# Altium schematic symbol library WE-DPC HV.SchLib: 13 symbols
Pins are listed as number, name and electrical type; pins without a type are passive.

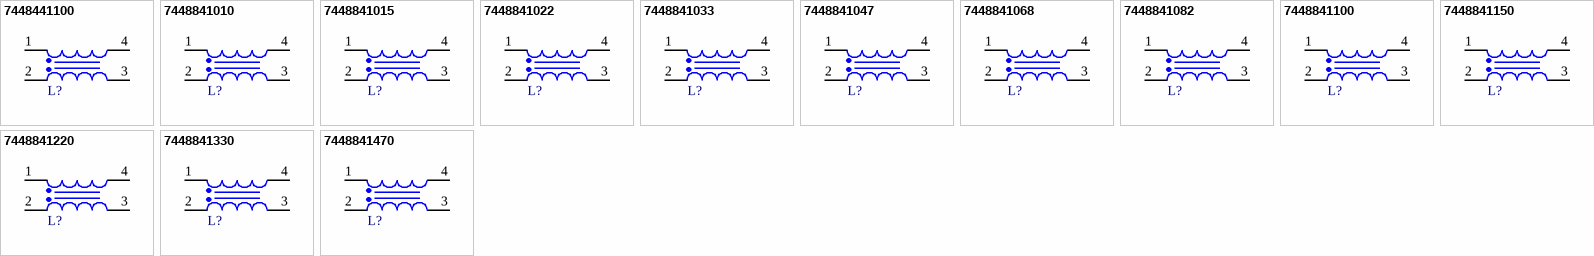
[diagram p0: symbols 7448441100 to 7448841470]

## 7448441100
designator L?, comment 10µH, 1.2A  (value not drawn)
WE-DPC HV SMT Dual Powerchoke, size 5030, 10µH, 1.2A, 300mΩ; Manufacturer Part Number: 7448441100; Manufacturer: Wurth Elektronik; Case/Size Code: 5030; DC Resistance 1: 210mΩ; Rated Voltage: 250V; Saturation Current: 1.5A; Self Resonant Frequency: 35MHz; Turns Ratio: 1:1; Category: Coupled Power Inductors; Match Code: WE-DPC HV; ComponentLink1Description: Website Link; ComponentLink1URL: https://www.we-online.com/redexpert/article/7448441100?ad; ComponentLink2Description: Datasheet Link; ComponentLink2URL: https://www.we-online.com/redexpert/spec/7448441100?ad; Mount: Surface Mount; Operating Temperature Max: 125°C; Operating Temperature Min: -40°C; Packaging: Tape and Reel; Length: 5.2mm; Width: 5.2mm; Height: 3.1mm; DC Resistance 2: 210mΩ; DC Resistance Max 1: 300mΩ; DC Resistance Max 2: 300mΩ; Inductance 1: 10µH; Inductance 2: 10µH; Rated Current 1: 1.2A; Rated Current 2: 1.2A
footprint WE-DPC HV_5030
simulation model 5030_7448441100_10u
pins: 1, 2, 3, 4

## 7448841010
designator L?, comment 1µH, 2.9A  (value not drawn)
WE-DPC HV SMT Dual Powerchoke, size 5030, 1µH, 2.9A, 45mΩ; Manufacturer Part Number: 7448841010; Manufacturer: Wurth Elektronik; Case/Size Code: 5030; DC Resistance 1: 32mΩ; Rated Voltage: 250V; Saturation Current: 5A; Self Resonant Frequency: 190MHz; Turns Ratio: 1:1; Category: Coupled Power Inductors; Match Code: WE-DPC HV; ComponentLink1Description: Website Link; ComponentLink1URL: https://www.we-online.com/redexpert/article/7448841010?ad; ComponentLink2Description: Datasheet Link; ComponentLink2URL: https://www.we-online.com/redexpert/spec/7448841010?ad; Mount: Surface Mount; Operating Temperature Max: 125°C; Operating Temperature Min: -40°C; Packaging: Tape and Reel; Length: 5.2mm; Width: 5.2mm; Height: 3.1mm; DC Resistance 2: 32mΩ; DC Resistance Max 1: 45mΩ; DC Resistance Max 2: 45mΩ; Inductance 1: 1µH; Inductance 2: 1µH; Rated Current 1: 2.9A; Rated Current 2: 2.9A
footprint WE-DPC HV_5030
simulation model 5030_7448841010_1u
pins: 1, 2, 3, 4

## 7448841015
designator L?, comment 1.5µH, 2.7A  (value not drawn)
WE-DPC HV SMT Dual Powerchoke, size 5030, 1.5µH, 2.7A, 68mΩ; Manufacturer Part Number: 7448841015; Manufacturer: Wurth Elektronik; Case/Size Code: 5030; DC Resistance 1: 48mΩ; Rated Voltage: 250V; Saturation Current: 3.7A; Self Resonant Frequency: 110MHz; Turns Ratio: 1:1; Category: Coupled Power Inductors; Match Code: WE-DPC HV; ComponentLink1Description: Website Link; ComponentLink1URL: https://www.we-online.com/redexpert/article/7448841015?ad; ComponentLink2Description: Datasheet Link; ComponentLink2URL: https://www.we-online.com/redexpert/spec/7448841015?ad; Mount: Surface Mount; Operating Temperature Max: 125°C; Operating Temperature Min: -40°C; Packaging: Tape and Reel; Length: 5.2mm; Width: 5.2mm; Height: 3.1mm; DC Resistance 2: 48mΩ; DC Resistance Max 1: 68mΩ; DC Resistance Max 2: 68mΩ; Inductance 1: 1.5µH; Inductance 2: 1.5µH; Rated Current 1: 2.7A; Rated Current 2: 2.7A
footprint WE-DPC HV_5030
simulation model 5030_7448841015_1.5u
pins: 1, 2, 3, 4

## 7448841022
designator L?, comment 2.2µH, 2.5A  (value not drawn)
WE-DPC HV SMT Dual Powerchoke, size 5030, 2.2µH, 2.5A, 72mΩ; Manufacturer Part Number: 7448841022; Manufacturer: Wurth Elektronik; Case/Size Code: 5030; DC Resistance 1: 50mΩ; Rated Voltage: 250V; Saturation Current: 3.2A; Self Resonant Frequency: 95MHz; Turns Ratio: 1:1; Category: Coupled Power Inductors; Match Code: WE-DPC HV; ComponentLink1Description: Website Link; ComponentLink1URL: https://www.we-online.com/redexpert/article/7448841022?ad; ComponentLink2Description: Datasheet Link; ComponentLink2URL: https://www.we-online.com/redexpert/spec/7448841022?ad; Mount: Surface Mount; Operating Temperature Max: 125°C; Operating Temperature Min: -40°C; Packaging: Tape and Reel; Length: 5.2mm; Width: 5.2mm; Height: 3.1mm; DC Resistance 2: 50mΩ; DC Resistance Max 1: 72mΩ; DC Resistance Max 2: 72mΩ; Inductance 1: 2.2µH; Inductance 2: 2.2µH; Rated Current 1: 2.5A; Rated Current 2: 2.5A
footprint WE-DPC HV_5030
simulation model 5030_7448841022_2.2u
pins: 1, 2, 3, 4

## 7448841033
designator L?, comment 3.3µH, 1.9A  (value not drawn)
WE-DPC HV SMT Dual Powerchoke, size 5030, 3.3µH, 1.9A, 120mΩ; Manufacturer Part Number: 7448841033; Manufacturer: Wurth Elektronik; Case/Size Code: 5030; DC Resistance 1: 84mΩ; Rated Voltage: 250V; Saturation Current: 2.6A; Self Resonant Frequency: 50MHz; Turns Ratio: 1:1; Category: Coupled Power Inductors; Match Code: WE-DPC HV; ComponentLink1Description: Website Link; ComponentLink1URL: https://www.we-online.com/redexpert/article/7448841033?ad; ComponentLink2Description: Datasheet Link; ComponentLink2URL: https://www.we-online.com/redexpert/spec/7448841033?ad; Mount: Surface Mount; Operating Temperature Max: 125°C; Operating Temperature Min: -40°C; Packaging: Tape and Reel; Length: 5.2mm; Width: 5.2mm; Height: 3.1mm; DC Resistance 2: 84mΩ; DC Resistance Max 1: 120mΩ; DC Resistance Max 2: 120mΩ; Inductance 1: 3.3µH; Inductance 2: 3.3µH; Rated Current 1: 1.9A; Rated Current 2: 1.9A
footprint WE-DPC HV_5030
simulation model 5030_7448841033_3.3u
pins: 1, 2, 3, 4

## 7448841047
designator L?, comment 4.7µH, 1.6A  (value not drawn)
WE-DPC HV SMT Dual Powerchoke, size 5030, 4.7µH, 1.6A, 145mΩ; Manufacturer Part Number: 7448841047; Manufacturer: Wurth Elektronik; Case/Size Code: 5030; DC Resistance 1: 102mΩ; Rated Voltage: 250V; Saturation Current: 1.9A; Self Resonant Frequency: 45MHz; Turns Ratio: 1:1; Category: Coupled Power Inductors; Match Code: WE-DPC HV; ComponentLink1Description: Website Link; ComponentLink1URL: https://www.we-online.com/redexpert/article/7448841047?ad; ComponentLink2Description: Datasheet Link; ComponentLink2URL: https://www.we-online.com/redexpert/spec/7448841047?ad; Mount: Surface Mount; Operating Temperature Max: 125°C; Operating Temperature Min: -40°C; Packaging: Tape and Reel; Length: 5.2mm; Width: 5.2mm; Height: 3.1mm; DC Resistance 2: 102mΩ; DC Resistance Max 1: 145mΩ; DC Resistance Max 2: 145mΩ; Inductance 1: 4.7µH; Inductance 2: 4.7µH; Rated Current 1: 1.6A; Rated Current 2: 1.6A
footprint WE-DPC HV_5030
simulation model 5030_7448841047_4.7u
pins: 1, 2, 3, 4

## 7448841068
designator L?, comment 6.8µH, 1.4A  (value not drawn)
WE-DPC HV SMT Dual Powerchoke, size 5030, 6.8µH, 1.4A, 240mΩ; Manufacturer Part Number: 7448841068; Manufacturer: Wurth Elektronik; Case/Size Code: 5030; DC Resistance 1: 168mΩ; Rated Voltage: 250V; Saturation Current: 1.7A; Self Resonant Frequency: 42MHz; Turns Ratio: 1:1; Category: Coupled Power Inductors; Match Code: WE-DPC HV; ComponentLink1Description: Website Link; ComponentLink1URL: https://www.we-online.com/redexpert/article/7448841068?ad; ComponentLink2Description: Datasheet Link; ComponentLink2URL: https://www.we-online.com/redexpert/spec/7448841068?ad; Mount: Surface Mount; Operating Temperature Max: 125°C; Operating Temperature Min: -40°C; Packaging: Tape and Reel; Length: 5.2mm; Width: 5.2mm; Height: 3.1mm; DC Resistance 2: 168mΩ; DC Resistance Max 1: 240mΩ; DC Resistance Max 2: 240mΩ; Inductance 1: 6.8µH; Inductance 2: 6.8µH; Rated Current 1: 1.4A; Rated Current 2: 1.4A
footprint WE-DPC HV_5030
simulation model 5030_7448841068_6.8u
pins: 1, 2, 3, 4

## 7448841082
designator L?, comment 8.2µH, 1.3A  (value not drawn)
WE-DPC HV SMT Dual Powerchoke, size 5030, 8.2µH, 1.3A, 265mΩ; Manufacturer Part Number: 7448841082; Manufacturer: Wurth Elektronik; Case/Size Code: 5030; DC Resistance 1: 180mΩ; Rated Voltage: 250V; Saturation Current: 1.6A; Self Resonant Frequency: 40MHz; Turns Ratio: 1:1; Category: Coupled Power Inductors; Match Code: WE-DPC HV; ComponentLink1Description: Website Link; ComponentLink1URL: https://www.we-online.com/redexpert/article/7448841082?ad; ComponentLink2Description: Datasheet Link; ComponentLink2URL: https://www.we-online.com/redexpert/spec/7448841082?ad; Mount: Surface Mount; Operating Temperature Max: 125°C; Operating Temperature Min: -40°C; Packaging: Tape and Reel; Length: 5.2mm; Width: 5.2mm; Height: 3.1mm; DC Resistance 2: 180mΩ; DC Resistance Max 1: 265mΩ; DC Resistance Max 2: 265mΩ; Inductance 1: 8.2µH; Inductance 2: 8.2µH; Rated Current 1: 1.3A; Rated Current 2: 1.3A
footprint WE-DPC HV_5030
simulation model 5030_7448841082_8.2u
pins: 1, 2, 3, 4

## 7448841100
designator L?, comment 10µH, 1.2A  (value not drawn)
WE-DPC HV SMT Dual Powerchoke, size 5030, 10µH, 1.2A, 300mΩ; Manufacturer Part Number: 7448841100; Manufacturer: Wurth Elektronik; Case/Size Code: 5030; DC Resistance 1: 210mΩ; Rated Voltage: 250V; Saturation Current: 1.5A; Self Resonant Frequency: 35MHz; Turns Ratio: 1:1; Category: Coupled Power Inductors; Match Code: WE-DPC HV; ComponentLink1Description: Website Link; ComponentLink1URL: https://www.we-online.com/redexpert/article/7448841100?ad; ComponentLink2Description: Datasheet Link; ComponentLink2URL: https://www.we-online.com/redexpert/spec/7448841100?ad; Mount: Surface Mount; Operating Temperature Max: 125°C; Operating Temperature Min: -40°C; Packaging: Tape and Reel; Length: 5.2mm; Width: 5.2mm; Height: 3.1mm; DC Resistance 2: 210mΩ; DC Resistance Max 1: 300mΩ; DC Resistance Max 2: 300mΩ; Inductance 1: 10µH; Inductance 2: 10µH; Rated Current 1: 1.2A; Rated Current 2: 1.2A
footprint WE-DPC HV_5030
simulation model 5030_7448841100_10u
pins: 1, 2, 3, 4

## 7448841150
designator L?, comment 15µH, 0.9A  (value not drawn)
WE-DPC HV SMT Dual Powerchoke, size 5030, 15µH, 0.9A, 465mΩ; Manufacturer Part Number: 7448841150; Manufacturer: Wurth Elektronik; Case/Size Code: 5030; DC Resistance 1: 325mΩ; Rated Voltage: 250V; Saturation Current: 1.4A; Self Resonant Frequency: 24MHz; Turns Ratio: 1:1; Category: Coupled Power Inductors; Match Code: WE-DPC HV; ComponentLink1Description: Website Link; ComponentLink1URL: https://www.we-online.com/redexpert/article/7448841150?ad; ComponentLink2Description: Datasheet Link; ComponentLink2URL: https://www.we-online.com/redexpert/spec/7448841150?ad; Mount: Surface Mount; Operating Temperature Max: 125°C; Operating Temperature Min: -40°C; Packaging: Tape and Reel; Length: 5.2mm; Width: 5.2mm; Height: 3.1mm; DC Resistance 2: 325mΩ; DC Resistance Max 1: 465mΩ; DC Resistance Max 2: 465mΩ; Inductance 1: 15µH; Inductance 2: 15µH; Rated Current 1: 0.9A; Rated Current 2: 0.9A
footprint WE-DPC HV_5030
simulation model 5030_7448841150_15u
pins: 1, 2, 3, 4

## 7448841220
designator L?, comment 22µH, 0.8A  (value not drawn)
WE-DPC HV SMT Dual Powerchoke, size 5030, 22µH, 0.8A, 650mΩ; Manufacturer Part Number: 7448841220; Manufacturer: Wurth Elektronik; Case/Size Code: 5030; DC Resistance 1: 455mΩ; Rated Voltage: 250V; Saturation Current: 1A; Self Resonant Frequency: 21MHz; Turns Ratio: 1:1; Category: Coupled Power Inductors; Match Code: WE-DPC HV; ComponentLink1Description: Website Link; ComponentLink1URL: https://www.we-online.com/redexpert/article/7448841220?ad; ComponentLink2Description: Datasheet Link; ComponentLink2URL: https://www.we-online.com/redexpert/spec/7448841220?ad; Mount: Surface Mount; Operating Temperature Max: 125°C; Operating Temperature Min: -40°C; Packaging: Tape and Reel; Length: 5.2mm; Width: 5.2mm; Height: 3.1mm; DC Resistance 2: 455mΩ; DC Resistance Max 1: 650mΩ; DC Resistance Max 2: 650mΩ; Inductance 1: 22µH; Inductance 2: 22µH; Rated Current 1: 0.8A; Rated Current 2: 0.8A
footprint WE-DPC HV_5030
simulation model 5030_7448841220_22u
pins: 1, 2, 3, 4

## 7448841330
designator L?, comment 33µH, 0.7A  (value not drawn)
WE-DPC HV SMT Dual Powerchoke, size 5030, 33µH, 0.7A, 1025mΩ; Manufacturer Part Number: 7448841330; Manufacturer: Wurth Elektronik; Case/Size Code: 5030; DC Resistance 1: 718mΩ; Rated Voltage: 250V; Saturation Current: 0.9A; Self Resonant Frequency: 19MHz; Turns Ratio: 1:1; Category: Coupled Power Inductors; Match Code: WE-DPC HV; ComponentLink1Description: Website Link; ComponentLink1URL: https://www.we-online.com/redexpert/article/7448841330?ad; ComponentLink2Description: Datasheet Link; ComponentLink2URL: https://www.we-online.com/redexpert/spec/7448841330?ad; Mount: Surface Mount; Operating Temperature Max: 125°C; Operating Temperature Min: -40°C; Packaging: Tape and Reel; Length: 5.2mm; Width: 5.2mm; Height: 3.1mm; DC Resistance 2: 718mΩ; DC Resistance Max 1: 1025mΩ; DC Resistance Max 2: 1025mΩ; Inductance 1: 33µH; Inductance 2: 33µH; Rated Current 1: 0.7A; Rated Current 2: 0.7A
footprint WE-DPC HV_5030
simulation model 5030_7448841330_33u
pins: 1, 2, 3, 4

## 7448841470
designator L?, comment 47µH, 0.6A  (value not drawn)
WE-DPC HV SMT Dual Powerchoke, size 5030, 47µH, 0.6A, 1200mΩ; Manufacturer Part Number: 7448841470; Manufacturer: Wurth Elektronik; Case/Size Code: 5030; DC Resistance 1: 840mΩ; Rated Voltage: 250V; Saturation Current: 0.7A; Self Resonant Frequency: 18MHz; Turns Ratio: 1:1; Category: Coupled Power Inductors; Match Code: WE-DPC HV; ComponentLink1Description: Website Link; ComponentLink1URL: https://www.we-online.com/redexpert/article/7448841470?ad; ComponentLink2Description: Datasheet Link; ComponentLink2URL: https://www.we-online.com/redexpert/spec/7448841470?ad; Mount: Surface Mount; Operating Temperature Max: 125°C; Operating Temperature Min: -40°C; Packaging: Tape and Reel; Length: 5.2mm; Width: 5.2mm; Height: 3.1mm; DC Resistance 2: 840mΩ; DC Resistance Max 1: 1200mΩ; DC Resistance Max 2: 1200mΩ; Inductance 1: 47µH; Inductance 2: 47µH; Rated Current 1: 0.6A; Rated Current 2: 0.6A
footprint WE-DPC HV_5030
simulation model 5030_7448841470_47u
pins: 1, 2, 3, 4